# Altium schematic symbol library Power and Battery Management.SchLib: 645 symbols (part 5 of 15)
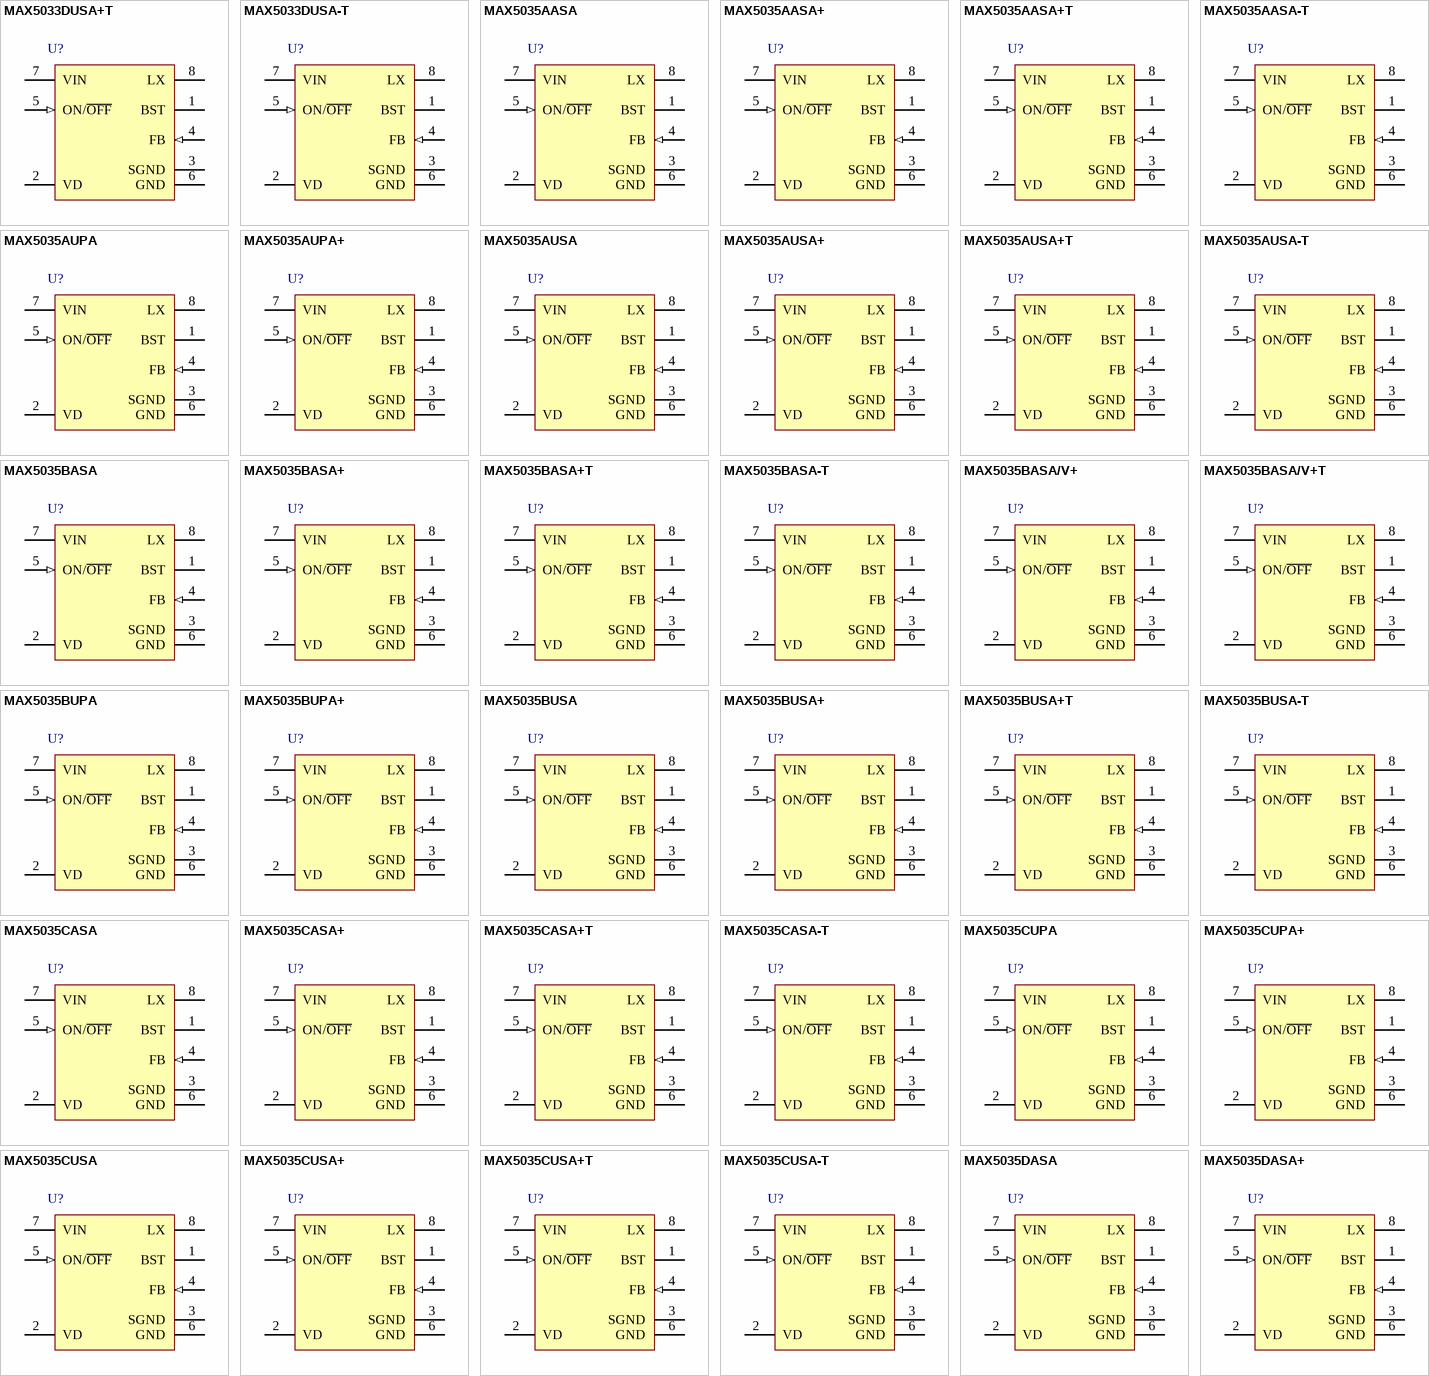
[diagram p23: symbols MAX5033DUSA+T to MAX5035DASA+]

## MAX5035AUSA+
designator U?
1A, 76V, High-Efficiency MAXPower Step-Down DC-DC Converter, 3.3V output, 8-Pin SOIC, 0°C to +85°C, Pb-Free; DatasheetVersion: Rev 5, May-2011; PackageVersion: revC, 2010; PackageReference: S8+5; PackageDescription: 8-Pin Small-Outline IC, Narrow (0.15in), 1.27 mm Pitch, SOIC (N), Pb-Free; Code_JEDEC: MS-012-AA; Code_IPC: SOIC127P600-8; ComponentLink1Description: Manufacturer URL; ComponentLink1URL: http://www.maxim-ic.com; ComponentLink2Description: Datasheet; ComponentLink2URL: http://datasheets.maxim-ic.com/en/ds/MAX5035.pdf; ComponentLink3Description: Package Specification; ComponentLink3URL: http://pdfserv.maxim-ic.com/package_dwgs/21-0041.PDF
footprint S8+5_N (SOIC, 8-Leads, Body 4.9x3.9mm, Pitch 1.27mm, IPC Medium Density)
footprint S8+5_L (SOIC, 8-Leads, Body 4.9x3.9mm, Pitch 1.27mm, IPC High Density)
footprint S8+5_M (SOIC, 8-Leads, Body 4.9x3.9mm, Pitch 1.27mm, IPC Low Density)
pins: 1 BST, 2 VD (power), 3 SGND (power), 4 FB (in), 5 ON/~{OFF} (in), 6 GND (power), 7 VIN (power), 8 LX

## MAX5035AUSA+T
designator U?
1A, 76V, High-Efficiency MAXPower Step-Down DC-DC Converter, 3.3V output, 8-Pin SOIC, 0°C to +85°C, Pb-Free, Tape and Reel; DatasheetVersion: Rev 5, May-2011; PackageVersion: revC, 2010; PackageReference: S8+5; PackageDescription: 8-Pin Small-Outline IC, Narrow (0.15in), 1.27 mm Pitch, SOIC (N), Pb-Free; Code_JEDEC: MS-012-AA; Code_IPC: SOIC127P600-8; ComponentLink1Description: Manufacturer URL; ComponentLink1URL: http://www.maxim-ic.com; ComponentLink2Description: Datasheet; ComponentLink2URL: http://datasheets.maxim-ic.com/en/ds/MAX5035.pdf; ComponentLink3Description: Package Specification; ComponentLink3URL: http://pdfserv.maxim-ic.com/package_dwgs/21-0041.PDF
footprint S8+5_N (SOIC, 8-Leads, Body 4.9x3.9mm, Pitch 1.27mm, IPC Medium Density)
footprint S8+5_L (SOIC, 8-Leads, Body 4.9x3.9mm, Pitch 1.27mm, IPC High Density)
footprint S8+5_M (SOIC, 8-Leads, Body 4.9x3.9mm, Pitch 1.27mm, IPC Low Density)
pins: 1 BST, 2 VD (power), 3 SGND (power), 4 FB (in), 5 ON/~{OFF} (in), 6 GND (power), 7 VIN (power), 8 LX

## MAX5035AUSA-T
designator U?
1A, 76V, High-Efficiency MAXPower Step-Down DC-DC Converter, 3.3V output, 8-Pin SOIC, 0°C to +85°C, Tape and Reel; DatasheetVersion: Rev 5, May-2011; PackageVersion: revC, 2010; PackageReference: S8-5; PackageDescription: 8-Pin Small-Outline IC, Narrow (0.15in), 1.27 mm Pitch, SOIC (N); Code_JEDEC: MS-012-AA; Code_IPC: SOIC127P600-8; ComponentLink1Description: Manufacturer URL; ComponentLink1URL: http://www.maxim-ic.com; ComponentLink2Description: Datasheet; ComponentLink2URL: http://datasheets.maxim-ic.com/en/ds/MAX5035.pdf; ComponentLink3Description: Package Specification; ComponentLink3URL: http://pdfserv.maxim-ic.com/package_dwgs/21-0041.PDF
footprint S8-5_N (SOIC, 8-Leads, Body 4.9x3.9mm, Pitch 1.27mm, IPC Medium Density)
footprint S8-5_L (SOIC, 8-Leads, Body 4.9x3.9mm, Pitch 1.27mm, IPC High Density)
footprint S8-5_M (SOIC, 8-Leads, Body 4.9x3.9mm, Pitch 1.27mm, IPC Low Density)
pins: 1 BST, 2 VD (power), 3 SGND (power), 4 FB (in), 5 ON/~{OFF} (in), 6 GND (power), 7 VIN (power), 8 LX

## MAX5035BASA
designator U?
1A, 76V, High-Efficiency MAXPower Step-Down DC-DC Converter, 5V output, 8-Pin SOIC, -40°C to +125°C; DatasheetVersion: Rev 5, May-2011; PackageVersion: revC, 2010; PackageReference: S8-5; PackageDescription: 8-Pin Small-Outline IC, Narrow (0.15in), 1.27 mm Pitch, SOIC (N); Code_JEDEC: MS-012-AA; Code_IPC: SOIC127P600-8; ComponentLink1Description: Manufacturer URL; ComponentLink1URL: http://www.maxim-ic.com; ComponentLink2Description: Datasheet; ComponentLink2URL: http://datasheets.maxim-ic.com/en/ds/MAX5035.pdf; ComponentLink3Description: Package Specification; ComponentLink3URL: http://pdfserv.maxim-ic.com/package_dwgs/21-0041.PDF
footprint S8-5_N (SOIC, 8-Leads, Body 4.9x3.9mm, Pitch 1.27mm, IPC Medium Density)
footprint S8-5_L (SOIC, 8-Leads, Body 4.9x3.9mm, Pitch 1.27mm, IPC High Density)
footprint S8-5_M (SOIC, 8-Leads, Body 4.9x3.9mm, Pitch 1.27mm, IPC Low Density)
pins: 1 BST, 2 VD (power), 3 SGND (power), 4 FB (in), 5 ON/~{OFF} (in), 6 GND (power), 7 VIN (power), 8 LX

## MAX5035BASA+
designator U?
1A, 76V, High-Efficiency MAXPower Step-Down DC-DC Converter, 5V output, 8-Pin SOIC, -40°C to +125°C, Pb-Free; DatasheetVersion: Rev 5, May-2011; PackageVersion: revC, 2010; PackageReference: S8+5; PackageDescription: 8-Pin Small-Outline IC, Narrow (0.15in), 1.27 mm Pitch, SOIC (N), Pb-Free; Code_JEDEC: MS-012-AA; Code_IPC: SOIC127P600-8; ComponentLink1Description: Manufacturer URL; ComponentLink1URL: http://www.maxim-ic.com; ComponentLink2Description: Datasheet; ComponentLink2URL: http://datasheets.maxim-ic.com/en/ds/MAX5035.pdf; ComponentLink3Description: Package Specification; ComponentLink3URL: http://pdfserv.maxim-ic.com/package_dwgs/21-0041.PDF
footprint S8+5_N (SOIC, 8-Leads, Body 4.9x3.9mm, Pitch 1.27mm, IPC Medium Density)
footprint S8+5_L (SOIC, 8-Leads, Body 4.9x3.9mm, Pitch 1.27mm, IPC High Density)
footprint S8+5_M (SOIC, 8-Leads, Body 4.9x3.9mm, Pitch 1.27mm, IPC Low Density)
pins: 1 BST, 2 VD (power), 3 SGND (power), 4 FB (in), 5 ON/~{OFF} (in), 6 GND (power), 7 VIN (power), 8 LX

## MAX5035BASA+T
designator U?
1A, 76V, High-Efficiency MAXPower Step-Down DC-DC Converter, 5V output, 8-Pin SOIC, -40°C to +125°C, Pb-Free, Tape and Reel; DatasheetVersion: Rev 5, May-2011; PackageVersion: revC, 2010; PackageReference: S8+5; PackageDescription: 8-Pin Small-Outline IC, Narrow (0.15in), 1.27 mm Pitch, SOIC (N), Pb-Free; Code_JEDEC: MS-012-AA; Code_IPC: SOIC127P600-8; ComponentLink1Description: Manufacturer URL; ComponentLink1URL: http://www.maxim-ic.com; ComponentLink2Description: Datasheet; ComponentLink2URL: http://datasheets.maxim-ic.com/en/ds/MAX5035.pdf; ComponentLink3Description: Package Specification; ComponentLink3URL: http://pdfserv.maxim-ic.com/package_dwgs/21-0041.PDF
footprint S8+5_N (SOIC, 8-Leads, Body 4.9x3.9mm, Pitch 1.27mm, IPC Medium Density)
footprint S8+5_L (SOIC, 8-Leads, Body 4.9x3.9mm, Pitch 1.27mm, IPC High Density)
footprint S8+5_M (SOIC, 8-Leads, Body 4.9x3.9mm, Pitch 1.27mm, IPC Low Density)
pins: 1 BST, 2 VD (power), 3 SGND (power), 4 FB (in), 5 ON/~{OFF} (in), 6 GND (power), 7 VIN (power), 8 LX

## MAX5035BASA-T
designator U?
1A, 76V, High-Efficiency MAXPower Step-Down DC-DC Converter, 5V output, 8-Pin SOIC, -40°C to +125°C, Tape and Reel; DatasheetVersion: Rev 5, May-2011; PackageVersion: revC, 2010; PackageReference: S8-5; PackageDescription: 8-Pin Small-Outline IC, Narrow (0.15in), 1.27 mm Pitch, SOIC (N); Code_JEDEC: MS-012-AA; Code_IPC: SOIC127P600-8; ComponentLink1Description: Manufacturer URL; ComponentLink1URL: http://www.maxim-ic.com; ComponentLink2Description: Datasheet; ComponentLink2URL: http://datasheets.maxim-ic.com/en/ds/MAX5035.pdf; ComponentLink3Description: Package Specification; ComponentLink3URL: http://pdfserv.maxim-ic.com/package_dwgs/21-0041.PDF
footprint S8-5_N (SOIC, 8-Leads, Body 4.9x3.9mm, Pitch 1.27mm, IPC Medium Density)
footprint S8-5_L (SOIC, 8-Leads, Body 4.9x3.9mm, Pitch 1.27mm, IPC High Density)
footprint S8-5_M (SOIC, 8-Leads, Body 4.9x3.9mm, Pitch 1.27mm, IPC Low Density)
pins: 1 BST, 2 VD (power), 3 SGND (power), 4 FB (in), 5 ON/~{OFF} (in), 6 GND (power), 7 VIN (power), 8 LX

## MAX5035BASA/V+
designator U?
1A, 76V, High-Efficiency MAXPower Step-Down DC-DC Converter, 5V output, 8-Pin SOIC, -40°C to +125°C, Pb-Free; DatasheetVersion: Rev 5, May-2011; PackageVersion: revC, 2010; PackageReference: S8+5; PackageDescription: 8-Pin Small-Outline IC, Narrow (0.15in), 1.27 mm Pitch, SOIC (N), Pb-Free; Code_JEDEC: MS-012-AA; Code_IPC: SOIC127P600-8; ComponentLink1Description: Manufacturer URL; ComponentLink1URL: http://www.maxim-ic.com; ComponentLink2Description: Datasheet; ComponentLink2URL: http://datasheets.maxim-ic.com/en/ds/MAX5035.pdf; ComponentLink3Description: Package Specification; ComponentLink3URL: http://pdfserv.maxim-ic.com/package_dwgs/21-0041.PDF
footprint S8+5_N (SOIC, 8-Leads, Body 4.9x3.9mm, Pitch 1.27mm, IPC Medium Density)
footprint S8+5_L (SOIC, 8-Leads, Body 4.9x3.9mm, Pitch 1.27mm, IPC High Density)
footprint S8+5_M (SOIC, 8-Leads, Body 4.9x3.9mm, Pitch 1.27mm, IPC Low Density)
pins: 1 BST, 2 VD (power), 3 SGND (power), 4 FB (in), 5 ON/~{OFF} (in), 6 GND (power), 7 VIN (power), 8 LX

## MAX5035BASA/V+T
designator U?
1A, 76V, High-Efficiency MAXPower Step-Down DC-DC Converter, 5V output, 8-Pin SOIC, -40°C to +125°C, Pb-Free, Tape and Reel; DatasheetVersion: Rev 5, May-2011; PackageVersion: revC, 2010; PackageReference: S8+5; PackageDescription: 8-Pin Small-Outline IC, Narrow (0.15in), 1.27 mm Pitch, SOIC (N), Pb-Free; Code_JEDEC: MS-012-AA; Code_IPC: SOIC127P600-8; ComponentLink1Description: Manufacturer URL; ComponentLink1URL: http://www.maxim-ic.com; ComponentLink2Description: Datasheet; ComponentLink2URL: http://datasheets.maxim-ic.com/en/ds/MAX5035.pdf; ComponentLink3Description: Package Specification; ComponentLink3URL: http://pdfserv.maxim-ic.com/package_dwgs/21-0041.PDF
footprint S8+5_N (SOIC, 8-Leads, Body 4.9x3.9mm, Pitch 1.27mm, IPC Medium Density)
footprint S8+5_L (SOIC, 8-Leads, Body 4.9x3.9mm, Pitch 1.27mm, IPC High Density)
footprint S8+5_M (SOIC, 8-Leads, Body 4.9x3.9mm, Pitch 1.27mm, IPC Low Density)
pins: 1 BST, 2 VD (power), 3 SGND (power), 4 FB (in), 5 ON/~{OFF} (in), 6 GND (power), 7 VIN (power), 8 LX

## MAX5035BUPA
designator U?
1A, 76V, High-Efficiency MAXPower Step-Down DC-DC Converter, 5V output, 8-Pin PDIP, 0°C to +85°C; DatasheetVersion: Rev 5, May-2011; PackageVersion: revE, 2011; PackageReference: P8-3; PackageDescription: 8-Pin Plastic Dual-In-Line, Narrow (0.3in), Pitch 2.54 mm, PDIP(N); Code_JEDEC: MS-001-AB; ComponentLink1Description: Manufacturer URL; ComponentLink1URL: http://www.maxim-ic.com; ComponentLink2Description: Datasheet; ComponentLink2URL: http://datasheets.maxim-ic.com/en/ds/MAX5035.pdf; ComponentLink3Description: Package Specification; ComponentLink3URL: http://pdfserv.maxim-ic.com/package_dwgs/21-0043.PDF
footprint P8-3 (DIP, 8-Leads, Row Spacing 7.62mm, Pitch 2.54mm, Body 9.4x7mm)
pins: 1 BST, 2 VD (power), 3 SGND (power), 4 FB (in), 5 ON/~{OFF} (in), 6 GND (power), 7 VIN (power), 8 LX

## MAX5035BUPA+
designator U?
1A, 76V, High-Efficiency MAXPower Step-Down DC-DC Converter, 5V output, 8-Pin PDIP, 0°C to +85°C, Pb-Free; DatasheetVersion: Rev 5, May-2011; PackageVersion: revE, 2011; PackageReference: P8+3; PackageDescription: 8-Pin Plastic Dual-In-Line, Narrow (0.3in), Pitch 2.54 mm, PDIP(N), Pb-Free; Code_JEDEC: MS-001-AB; ComponentLink1Description: Manufacturer URL; ComponentLink1URL: http://www.maxim-ic.com; ComponentLink2Description: Datasheet; ComponentLink2URL: http://datasheets.maxim-ic.com/en/ds/MAX5035.pdf; ComponentLink3Description: Package Specification; ComponentLink3URL: http://pdfserv.maxim-ic.com/package_dwgs/21-0043.PDF
footprint P8+3 (DIP, 8-Leads, Row Spacing 7.62mm, Pitch 2.54mm, Body 9.4x7mm)
pins: 1 BST, 2 VD (power), 3 SGND (power), 4 FB (in), 5 ON/~{OFF} (in), 6 GND (power), 7 VIN (power), 8 LX

## MAX5035BUSA
designator U?
1A, 76V, High-Efficiency MAXPower Step-Down DC-DC Converter, 5V output, 8-Pin SOIC, 0°C to +85°C; DatasheetVersion: Rev 5, May-2011; PackageVersion: revC, 2010; PackageReference: S8-5; PackageDescription: 8-Pin Small-Outline IC, Narrow (0.15in), 1.27 mm Pitch, SOIC (N); Code_JEDEC: MS-012-AA; Code_IPC: SOIC127P600-8; ComponentLink1Description: Manufacturer URL; ComponentLink1URL: http://www.maxim-ic.com; ComponentLink2Description: Datasheet; ComponentLink2URL: http://datasheets.maxim-ic.com/en/ds/MAX5035.pdf; ComponentLink3Description: Package Specification; ComponentLink3URL: http://pdfserv.maxim-ic.com/package_dwgs/21-0041.PDF
footprint S8-5_N (SOIC, 8-Leads, Body 4.9x3.9mm, Pitch 1.27mm, IPC Medium Density)
footprint S8-5_L (SOIC, 8-Leads, Body 4.9x3.9mm, Pitch 1.27mm, IPC High Density)
footprint S8-5_M (SOIC, 8-Leads, Body 4.9x3.9mm, Pitch 1.27mm, IPC Low Density)
pins: 1 BST, 2 VD (power), 3 SGND (power), 4 FB (in), 5 ON/~{OFF} (in), 6 GND (power), 7 VIN (power), 8 LX

## MAX5035BUSA+
designator U?
1A, 76V, High-Efficiency MAXPower Step-Down DC-DC Converter, 5V output, 8-Pin SOIC, 0°C to +85°C, Pb-Free; DatasheetVersion: Rev 5, May-2011; PackageVersion: revC, 2010; PackageReference: S8+5; PackageDescription: 8-Pin Small-Outline IC, Narrow (0.15in), 1.27 mm Pitch, SOIC (N), Pb-Free; Code_JEDEC: MS-012-AA; Code_IPC: SOIC127P600-8; ComponentLink1Description: Manufacturer URL; ComponentLink1URL: http://www.maxim-ic.com; ComponentLink2Description: Datasheet; ComponentLink2URL: http://datasheets.maxim-ic.com/en/ds/MAX5035.pdf; ComponentLink3Description: Package Specification; ComponentLink3URL: http://pdfserv.maxim-ic.com/package_dwgs/21-0041.PDF
footprint S8+5_N (SOIC, 8-Leads, Body 4.9x3.9mm, Pitch 1.27mm, IPC Medium Density)
footprint S8+5_L (SOIC, 8-Leads, Body 4.9x3.9mm, Pitch 1.27mm, IPC High Density)
footprint S8+5_M (SOIC, 8-Leads, Body 4.9x3.9mm, Pitch 1.27mm, IPC Low Density)
pins: 1 BST, 2 VD (power), 3 SGND (power), 4 FB (in), 5 ON/~{OFF} (in), 6 GND (power), 7 VIN (power), 8 LX

## MAX5035BUSA+T
designator U?
1A, 76V, High-Efficiency MAXPower Step-Down DC-DC Converter, 5V output, 8-Pin SOIC, 0°C to +85°C, Pb-Free, Tape and Reel; DatasheetVersion: Rev 5, May-2011; PackageVersion: revC, 2010; PackageReference: S8+5; PackageDescription: 8-Pin Small-Outline IC, Narrow (0.15in), 1.27 mm Pitch, SOIC (N), Pb-Free; Code_JEDEC: MS-012-AA; Code_IPC: SOIC127P600-8; ComponentLink1Description: Manufacturer URL; ComponentLink1URL: http://www.maxim-ic.com; ComponentLink2Description: Datasheet; ComponentLink2URL: http://datasheets.maxim-ic.com/en/ds/MAX5035.pdf; ComponentLink3Description: Package Specification; ComponentLink3URL: http://pdfserv.maxim-ic.com/package_dwgs/21-0041.PDF
footprint S8+5_N (SOIC, 8-Leads, Body 4.9x3.9mm, Pitch 1.27mm, IPC Medium Density)
footprint S8+5_L (SOIC, 8-Leads, Body 4.9x3.9mm, Pitch 1.27mm, IPC High Density)
footprint S8+5_M (SOIC, 8-Leads, Body 4.9x3.9mm, Pitch 1.27mm, IPC Low Density)
pins: 1 BST, 2 VD (power), 3 SGND (power), 4 FB (in), 5 ON/~{OFF} (in), 6 GND (power), 7 VIN (power), 8 LX

## MAX5035BUSA-T
designator U?
1A, 76V, High-Efficiency MAXPower Step-Down DC-DC Converter, 5V output, 8-Pin SOIC, 0°C to +85°C, Tape and Reel; DatasheetVersion: Rev 5, May-2011; PackageVersion: revC, 2010; PackageReference: S8-5; PackageDescription: 8-Pin Small-Outline IC, Narrow (0.15in), 1.27 mm Pitch, SOIC (N); Code_JEDEC: MS-012-AA; Code_IPC: SOIC127P600-8; ComponentLink1Description: Manufacturer URL; ComponentLink1URL: http://www.maxim-ic.com; ComponentLink2Description: Datasheet; ComponentLink2URL: http://datasheets.maxim-ic.com/en/ds/MAX5035.pdf; ComponentLink3Description: Package Specification; ComponentLink3URL: http://pdfserv.maxim-ic.com/package_dwgs/21-0041.PDF
footprint S8-5_N (SOIC, 8-Leads, Body 4.9x3.9mm, Pitch 1.27mm, IPC Medium Density)
footprint S8-5_L (SOIC, 8-Leads, Body 4.9x3.9mm, Pitch 1.27mm, IPC High Density)
footprint S8-5_M (SOIC, 8-Leads, Body 4.9x3.9mm, Pitch 1.27mm, IPC Low Density)
pins: 1 BST, 2 VD (power), 3 SGND (power), 4 FB (in), 5 ON/~{OFF} (in), 6 GND (power), 7 VIN (power), 8 LX

## MAX5035CASA
designator U?
1A, 76V, High-Efficiency MAXPower Step-Down DC-DC Converter, 12V output, 8-Pin SOIC, -40°C to +125°C; DatasheetVersion: Rev 5, May-2011; PackageVersion: revC, 2010; PackageReference: S8-5; PackageDescription: 8-Pin Small-Outline IC, Narrow (0.15in), 1.27 mm Pitch, SOIC (N); Code_JEDEC: MS-012-AA; Code_IPC: SOIC127P600-8; ComponentLink1Description: Manufacturer URL; ComponentLink1URL: http://www.maxim-ic.com; ComponentLink2Description: Datasheet; ComponentLink2URL: http://datasheets.maxim-ic.com/en/ds/MAX5035.pdf; ComponentLink3Description: Package Specification; ComponentLink3URL: http://pdfserv.maxim-ic.com/package_dwgs/21-0041.PDF
footprint S8-5_N (SOIC, 8-Leads, Body 4.9x3.9mm, Pitch 1.27mm, IPC Medium Density)
footprint S8-5_L (SOIC, 8-Leads, Body 4.9x3.9mm, Pitch 1.27mm, IPC High Density)
footprint S8-5_M (SOIC, 8-Leads, Body 4.9x3.9mm, Pitch 1.27mm, IPC Low Density)
pins: 1 BST, 2 VD (power), 3 SGND (power), 4 FB (in), 5 ON/~{OFF} (in), 6 GND (power), 7 VIN (power), 8 LX

## MAX5035CASA+
designator U?
1A, 76V, High-Efficiency MAXPower Step-Down DC-DC Converter, 12V output, 8-Pin SOIC, -40°C to +125°C, Pb-Free; DatasheetVersion: Rev 5, May-2011; PackageVersion: revC, 2010; PackageReference: S8+5; PackageDescription: 8-Pin Small-Outline IC, Narrow (0.15in), 1.27 mm Pitch, SOIC (N), Pb-Free; Code_JEDEC: MS-012-AA; Code_IPC: SOIC127P600-8; ComponentLink1Description: Manufacturer URL; ComponentLink1URL: http://www.maxim-ic.com; ComponentLink2Description: Datasheet; ComponentLink2URL: http://datasheets.maxim-ic.com/en/ds/MAX5035.pdf; ComponentLink3Description: Package Specification; ComponentLink3URL: http://pdfserv.maxim-ic.com/package_dwgs/21-0041.PDF
footprint S8+5_N (SOIC, 8-Leads, Body 4.9x3.9mm, Pitch 1.27mm, IPC Medium Density)
footprint S8+5_L (SOIC, 8-Leads, Body 4.9x3.9mm, Pitch 1.27mm, IPC High Density)
footprint S8+5_M (SOIC, 8-Leads, Body 4.9x3.9mm, Pitch 1.27mm, IPC Low Density)
pins: 1 BST, 2 VD (power), 3 SGND (power), 4 FB (in), 5 ON/~{OFF} (in), 6 GND (power), 7 VIN (power), 8 LX

## MAX5035CASA+T
designator U?
1A, 76V, High-Efficiency MAXPower Step-Down DC-DC Converter, 12V output, 8-Pin SOIC, -40°C to +125°C, Pb-Free, Tape and Reel; DatasheetVersion: Rev 5, May-2011; PackageVersion: revC, 2010; PackageReference: S8+5; PackageDescription: 8-Pin Small-Outline IC, Narrow (0.15in), 1.27 mm Pitch, SOIC (N), Pb-Free; Code_JEDEC: MS-012-AA; Code_IPC: SOIC127P600-8; ComponentLink1Description: Manufacturer URL; ComponentLink1URL: http://www.maxim-ic.com; ComponentLink2Description: Datasheet; ComponentLink2URL: http://datasheets.maxim-ic.com/en/ds/MAX5035.pdf; ComponentLink3Description: Package Specification; ComponentLink3URL: http://pdfserv.maxim-ic.com/package_dwgs/21-0041.PDF
footprint S8+5_N (SOIC, 8-Leads, Body 4.9x3.9mm, Pitch 1.27mm, IPC Medium Density)
footprint S8+5_L (SOIC, 8-Leads, Body 4.9x3.9mm, Pitch 1.27mm, IPC High Density)
footprint S8+5_M (SOIC, 8-Leads, Body 4.9x3.9mm, Pitch 1.27mm, IPC Low Density)
pins: 1 BST, 2 VD (power), 3 SGND (power), 4 FB (in), 5 ON/~{OFF} (in), 6 GND (power), 7 VIN (power), 8 LX

## MAX5035CASA-T
designator U?
1A, 76V, High-Efficiency MAXPower Step-Down DC-DC Converter, 12V output, 8-Pin SOIC, -40°C to +125°C, Tape and Reel; DatasheetVersion: Rev 5, May-2011; PackageVersion: revC, 2010; PackageReference: S8-5; PackageDescription: 8-Pin Small-Outline IC, Narrow (0.15in), 1.27 mm Pitch, SOIC (N); Code_JEDEC: MS-012-AA; Code_IPC: SOIC127P600-8; ComponentLink1Description: Manufacturer URL; ComponentLink1URL: http://www.maxim-ic.com; ComponentLink2Description: Datasheet; ComponentLink2URL: http://datasheets.maxim-ic.com/en/ds/MAX5035.pdf; ComponentLink3Description: Package Specification; ComponentLink3URL: http://pdfserv.maxim-ic.com/package_dwgs/21-0041.PDF
footprint S8-5_N (SOIC, 8-Leads, Body 4.9x3.9mm, Pitch 1.27mm, IPC Medium Density)
footprint S8-5_L (SOIC, 8-Leads, Body 4.9x3.9mm, Pitch 1.27mm, IPC High Density)
footprint S8-5_M (SOIC, 8-Leads, Body 4.9x3.9mm, Pitch 1.27mm, IPC Low Density)
pins: 1 BST, 2 VD (power), 3 SGND (power), 4 FB (in), 5 ON/~{OFF} (in), 6 GND (power), 7 VIN (power), 8 LX

## MAX5035CUPA
designator U?
1A, 76V, High-Efficiency MAXPower Step-Down DC-DC Converter, 12V output, 8-Pin PDIP, 0°C to +85°C; DatasheetVersion: Rev 5, May-2011; PackageVersion: revE, 2011; PackageReference: P8-3; PackageDescription: 8-Pin Plastic Dual-In-Line, Narrow (0.3in), Pitch 2.54 mm, PDIP(N); Code_JEDEC: MS-001-AB; ComponentLink1Description: Manufacturer URL; ComponentLink1URL: http://www.maxim-ic.com; ComponentLink2Description: Datasheet; ComponentLink2URL: http://datasheets.maxim-ic.com/en/ds/MAX5035.pdf; ComponentLink3Description: Package Specification; ComponentLink3URL: http://pdfserv.maxim-ic.com/package_dwgs/21-0043.PDF
footprint P8-3 (DIP, 8-Leads, Row Spacing 7.62mm, Pitch 2.54mm, Body 9.4x7mm)
pins: 1 BST, 2 VD (power), 3 SGND (power), 4 FB (in), 5 ON/~{OFF} (in), 6 GND (power), 7 VIN (power), 8 LX

## MAX5035CUPA+
designator U?
1A, 76V, High-Efficiency MAXPower Step-Down DC-DC Converter, 12V output, 8-Pin PDIP, 0°C to +85°C, Pb-Free; DatasheetVersion: Rev 5, May-2011; PackageVersion: revE, 2011; PackageReference: P8+3; PackageDescription: 8-Pin Plastic Dual-In-Line, Narrow (0.3in), Pitch 2.54 mm, PDIP(N), Pb-Free; Code_JEDEC: MS-001-AB; ComponentLink1Description: Manufacturer URL; ComponentLink1URL: http://www.maxim-ic.com; ComponentLink2Description: Datasheet; ComponentLink2URL: http://datasheets.maxim-ic.com/en/ds/MAX5035.pdf; ComponentLink3Description: Package Specification; ComponentLink3URL: http://pdfserv.maxim-ic.com/package_dwgs/21-0043.PDF
footprint P8+3 (DIP, 8-Leads, Row Spacing 7.62mm, Pitch 2.54mm, Body 9.4x7mm)
pins: 1 BST, 2 VD (power), 3 SGND (power), 4 FB (in), 5 ON/~{OFF} (in), 6 GND (power), 7 VIN (power), 8 LX

## MAX5035CUSA
designator U?
1A, 76V, High-Efficiency MAXPower Step-Down DC-DC Converter, 12V output, 8-Pin SOIC, 0°C to +85°C; DatasheetVersion: Rev 5, May-2011; PackageVersion: revC, 2010; PackageReference: S8-5; PackageDescription: 8-Pin Small-Outline IC, Narrow (0.15in), 1.27 mm Pitch, SOIC (N); Code_JEDEC: MS-012-AA; Code_IPC: SOIC127P600-8; ComponentLink1Description: Manufacturer URL; ComponentLink1URL: http://www.maxim-ic.com; ComponentLink2Description: Datasheet; ComponentLink2URL: http://datasheets.maxim-ic.com/en/ds/MAX5035.pdf; ComponentLink3Description: Package Specification; ComponentLink3URL: http://pdfserv.maxim-ic.com/package_dwgs/21-0041.PDF
footprint S8-5_N (SOIC, 8-Leads, Body 4.9x3.9mm, Pitch 1.27mm, IPC Medium Density)
footprint S8-5_L (SOIC, 8-Leads, Body 4.9x3.9mm, Pitch 1.27mm, IPC High Density)
footprint S8-5_M (SOIC, 8-Leads, Body 4.9x3.9mm, Pitch 1.27mm, IPC Low Density)
pins: 1 BST, 2 VD (power), 3 SGND (power), 4 FB (in), 5 ON/~{OFF} (in), 6 GND (power), 7 VIN (power), 8 LX

## MAX5035CUSA+
designator U?
1A, 76V, High-Efficiency MAXPower Step-Down DC-DC Converter, 12V output, 8-Pin SOIC, 0°C to +85°C, Pb-Free; DatasheetVersion: Rev 5, May-2011; PackageVersion: revC, 2010; PackageReference: S8+5; PackageDescription: 8-Pin Small-Outline IC, Narrow (0.15in), 1.27 mm Pitch, SOIC (N), Pb-Free; Code_JEDEC: MS-012-AA; Code_IPC: SOIC127P600-8; ComponentLink1Description: Manufacturer URL; ComponentLink1URL: http://www.maxim-ic.com; ComponentLink2Description: Datasheet; ComponentLink2URL: http://datasheets.maxim-ic.com/en/ds/MAX5035.pdf; ComponentLink3Description: Package Specification; ComponentLink3URL: http://pdfserv.maxim-ic.com/package_dwgs/21-0041.PDF
footprint S8+5_N (SOIC, 8-Leads, Body 4.9x3.9mm, Pitch 1.27mm, IPC Medium Density)
footprint S8+5_L (SOIC, 8-Leads, Body 4.9x3.9mm, Pitch 1.27mm, IPC High Density)
footprint S8+5_M (SOIC, 8-Leads, Body 4.9x3.9mm, Pitch 1.27mm, IPC Low Density)
pins: 1 BST, 2 VD (power), 3 SGND (power), 4 FB (in), 5 ON/~{OFF} (in), 6 GND (power), 7 VIN (power), 8 LX

## MAX5035CUSA+T
designator U?
1A, 76V, High-Efficiency MAXPower Step-Down DC-DC Converter, 12V output, 8-Pin SOIC, 0°C to +85°C, Pb-Free, Tape and Reel; DatasheetVersion: Rev 5, May-2011; PackageVersion: revC, 2010; PackageReference: S8+5; PackageDescription: 8-Pin Small-Outline IC, Narrow (0.15in), 1.27 mm Pitch, SOIC (N), Pb-Free; Code_JEDEC: MS-012-AA; Code_IPC: SOIC127P600-8; ComponentLink1Description: Manufacturer URL; ComponentLink1URL: http://www.maxim-ic.com; ComponentLink2Description: Datasheet; ComponentLink2URL: http://datasheets.maxim-ic.com/en/ds/MAX5035.pdf; ComponentLink3Description: Package Specification; ComponentLink3URL: http://pdfserv.maxim-ic.com/package_dwgs/21-0041.PDF
footprint S8+5_N (SOIC, 8-Leads, Body 4.9x3.9mm, Pitch 1.27mm, IPC Medium Density)
footprint S8+5_L (SOIC, 8-Leads, Body 4.9x3.9mm, Pitch 1.27mm, IPC High Density)
footprint S8+5_M (SOIC, 8-Leads, Body 4.9x3.9mm, Pitch 1.27mm, IPC Low Density)
pins: 1 BST, 2 VD (power), 3 SGND (power), 4 FB (in), 5 ON/~{OFF} (in), 6 GND (power), 7 VIN (power), 8 LX

## MAX5035CUSA-T
designator U?
1A, 76V, High-Efficiency MAXPower Step-Down DC-DC Converter, 12V output, 8-Pin SOIC, 0°C to +85°C, Tape and Reel; DatasheetVersion: Rev 5, May-2011; PackageVersion: revC, 2010; PackageReference: S8-5; PackageDescription: 8-Pin Small-Outline IC, Narrow (0.15in), 1.27 mm Pitch, SOIC (N); Code_JEDEC: MS-012-AA; Code_IPC: SOIC127P600-8; ComponentLink1Description: Manufacturer URL; ComponentLink1URL: http://www.maxim-ic.com; ComponentLink2Description: Datasheet; ComponentLink2URL: http://datasheets.maxim-ic.com/en/ds/MAX5035.pdf; ComponentLink3Description: Package Specification; ComponentLink3URL: http://pdfserv.maxim-ic.com/package_dwgs/21-0041.PDF
footprint S8-5_N (SOIC, 8-Leads, Body 4.9x3.9mm, Pitch 1.27mm, IPC Medium Density)
footprint S8-5_L (SOIC, 8-Leads, Body 4.9x3.9mm, Pitch 1.27mm, IPC High Density)
footprint S8-5_M (SOIC, 8-Leads, Body 4.9x3.9mm, Pitch 1.27mm, IPC Low Density)
pins: 1 BST, 2 VD (power), 3 SGND (power), 4 FB (in), 5 ON/~{OFF} (in), 6 GND (power), 7 VIN (power), 8 LX

## MAX5035DASA
designator U?
1A, 76V, High-Efficiency MAXPower Step-Down DC-DC Converter, 1.25 to 13.2V output, 8-Pin SOIC, -40°C to +125°C; DatasheetVersion: Rev 5, May-2011; PackageVersion: revC, 2010; PackageReference: S8-5; PackageDescription: 8-Pin Small-Outline IC, Narrow (0.15in), 1.27 mm Pitch, SOIC (N); Code_JEDEC: MS-012-AA; Code_IPC: SOIC127P600-8; ComponentLink1Description: Manufacturer URL; ComponentLink1URL: http://www.maxim-ic.com; ComponentLink2Description: Datasheet; ComponentLink2URL: http://datasheets.maxim-ic.com/en/ds/MAX5035.pdf; ComponentLink3Description: Package Specification; ComponentLink3URL: http://pdfserv.maxim-ic.com/package_dwgs/21-0041.PDF
footprint S8-5_N (SOIC, 8-Leads, Body 4.9x3.9mm, Pitch 1.27mm, IPC Medium Density)
footprint S8-5_L (SOIC, 8-Leads, Body 4.9x3.9mm, Pitch 1.27mm, IPC High Density)
footprint S8-5_M (SOIC, 8-Leads, Body 4.9x3.9mm, Pitch 1.27mm, IPC Low Density)
pins: 1 BST, 2 VD (power), 3 SGND (power), 4 FB (in), 5 ON/~{OFF} (in), 6 GND (power), 7 VIN (power), 8 LX

## MAX5035DASA+
designator U?
1A, 76V, High-Efficiency MAXPower Step-Down DC-DC Converter, 1.25 to 13.2V output, 8-Pin SOIC, -40°C to +125°C, Pb-Free; DatasheetVersion: Rev 5, May-2011; PackageVersion: revC, 2010; PackageReference: S8+5; PackageDescription: 8-Pin Small-Outline IC, Narrow (0.15in), 1.27 mm Pitch, SOIC (N), Pb-Free; Code_JEDEC: MS-012-AA; Code_IPC: SOIC127P600-8; ComponentLink1Description: Manufacturer URL; ComponentLink1URL: http://www.maxim-ic.com; ComponentLink2Description: Datasheet; ComponentLink2URL: http://datasheets.maxim-ic.com/en/ds/MAX5035.pdf; ComponentLink3Description: Package Specification; ComponentLink3URL: http://pdfserv.maxim-ic.com/package_dwgs/21-0041.PDF
footprint S8+5_N (SOIC, 8-Leads, Body 4.9x3.9mm, Pitch 1.27mm, IPC Medium Density)
footprint S8+5_L (SOIC, 8-Leads, Body 4.9x3.9mm, Pitch 1.27mm, IPC High Density)
footprint S8+5_M (SOIC, 8-Leads, Body 4.9x3.9mm, Pitch 1.27mm, IPC Low Density)
pins: 1 BST, 2 VD (power), 3 SGND (power), 4 FB (in), 5 ON/~{OFF} (in), 6 GND (power), 7 VIN (power), 8 LX

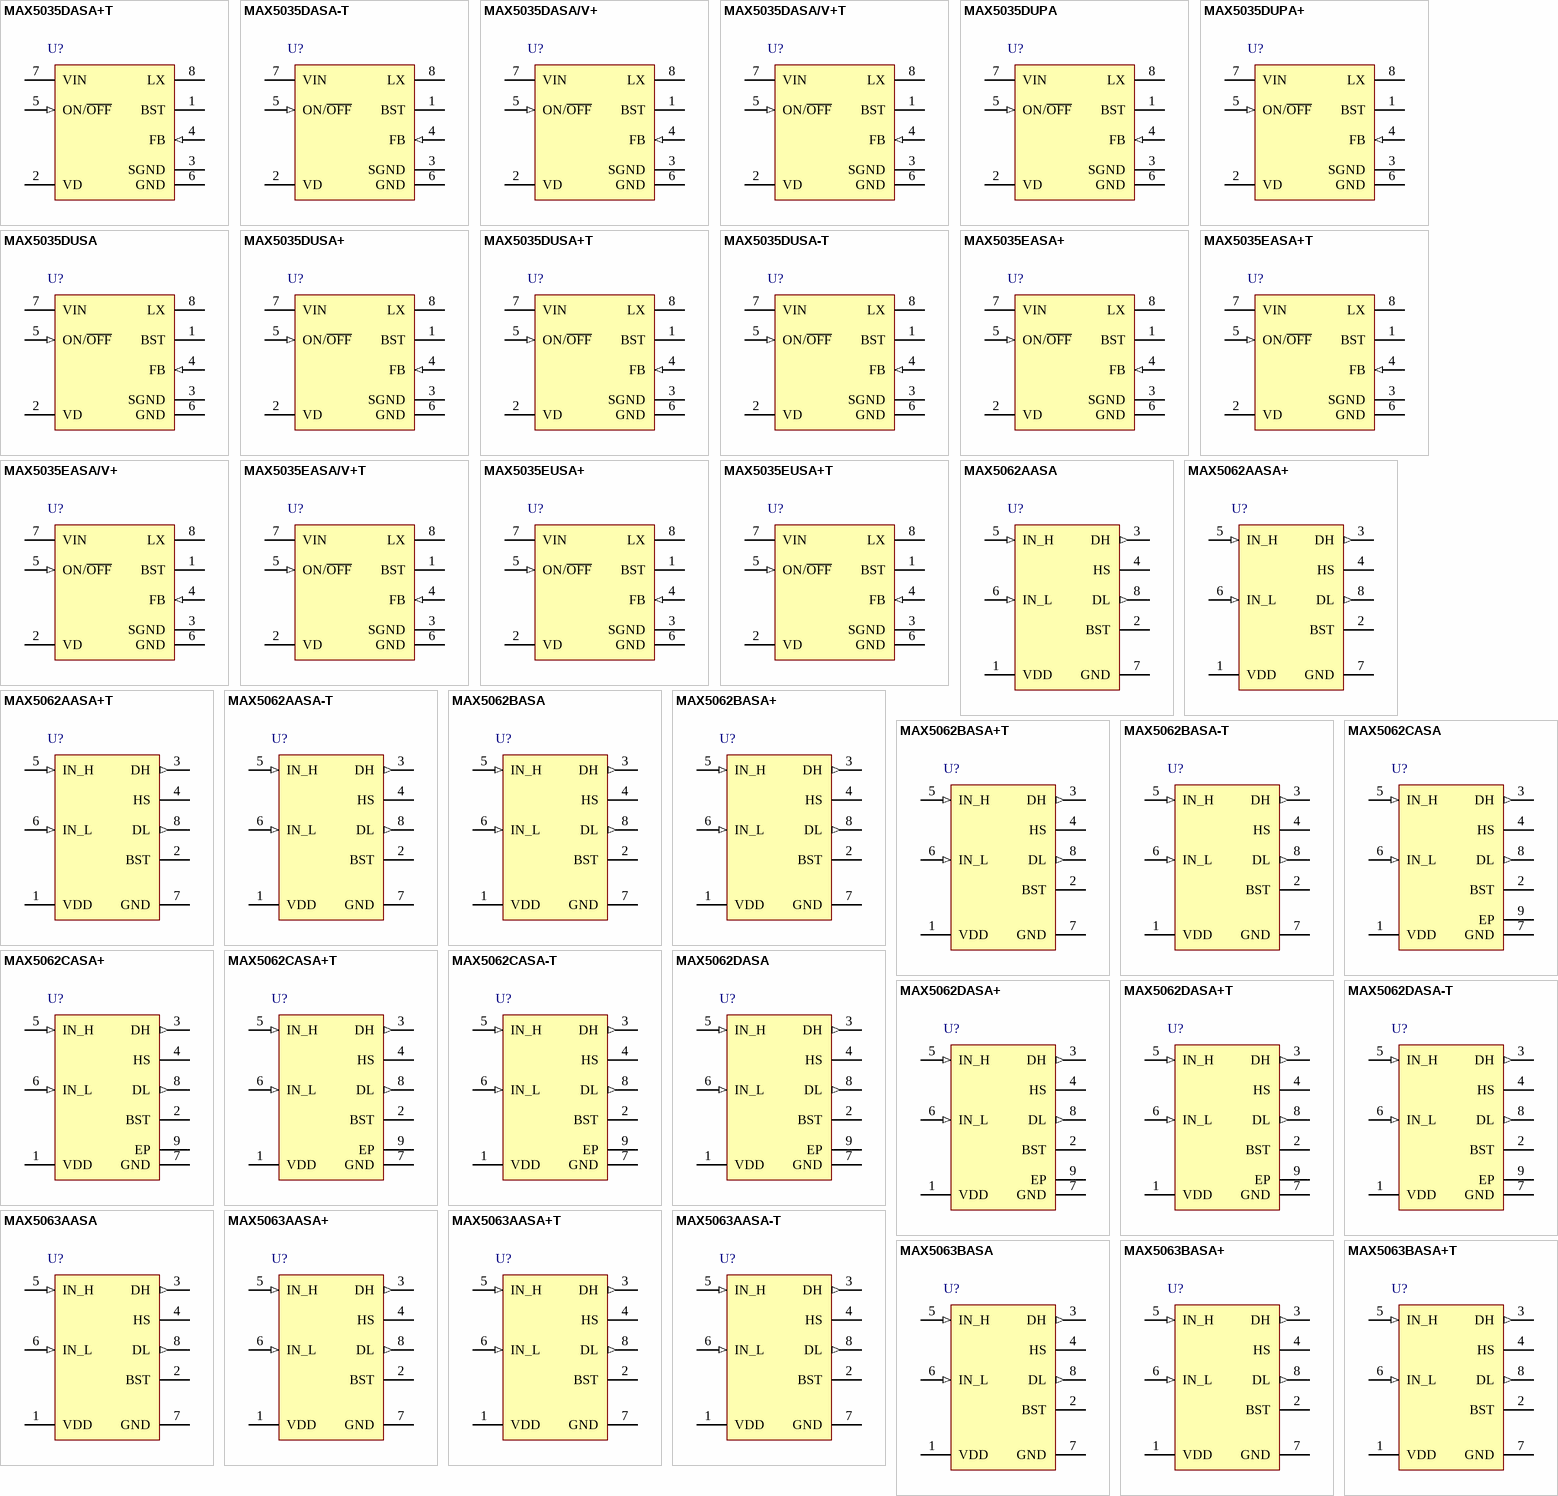
[diagram p6: symbols MAX5035DASA+T to MAX5063BASA+T]

## MAX5035DASA+T
designator U?
1A, 76V, High-Efficiency MAXPower Step-Down DC-DC Converter, 1.25 to 13.2V output, 8-Pin SOIC, -40°C to +125°C, Pb-Free, Tape and Reel; DatasheetVersion: Rev 5, May-2011; PackageVersion: revC, 2010; PackageReference: S8+5; PackageDescription: 8-Pin Small-Outline IC, Narrow (0.15in), 1.27 mm Pitch, SOIC (N), Pb-Free; Code_JEDEC: MS-012-AA; Code_IPC: SOIC127P600-8; ComponentLink1Description: Manufacturer URL; ComponentLink1URL: http://www.maxim-ic.com; ComponentLink2Description: Datasheet; ComponentLink2URL: http://datasheets.maxim-ic.com/en/ds/MAX5035.pdf; ComponentLink3Description: Package Specification; ComponentLink3URL: http://pdfserv.maxim-ic.com/package_dwgs/21-0041.PDF
footprint S8+5_N (SOIC, 8-Leads, Body 4.9x3.9mm, Pitch 1.27mm, IPC Medium Density)
footprint S8+5_L (SOIC, 8-Leads, Body 4.9x3.9mm, Pitch 1.27mm, IPC High Density)
footprint S8+5_M (SOIC, 8-Leads, Body 4.9x3.9mm, Pitch 1.27mm, IPC Low Density)
pins: 1 BST, 2 VD (power), 3 SGND (power), 4 FB (in), 5 ON/~{OFF} (in), 6 GND (power), 7 VIN (power), 8 LX

## MAX5035DASA-T
designator U?
1A, 76V, High-Efficiency MAXPower Step-Down DC-DC Converter, 1.25 to 13.2V output, 8-Pin SOIC, -40°C to +125°C, Tape and Reel; DatasheetVersion: Rev 5, May-2011; PackageVersion: revC, 2010; PackageReference: S8-5; PackageDescription: 8-Pin Small-Outline IC, Narrow (0.15in), 1.27 mm Pitch, SOIC (N); Code_JEDEC: MS-012-AA; Code_IPC: SOIC127P600-8; ComponentLink1Description: Manufacturer URL; ComponentLink1URL: http://www.maxim-ic.com; ComponentLink2Description: Datasheet; ComponentLink2URL: http://datasheets.maxim-ic.com/en/ds/MAX5035.pdf; ComponentLink3Description: Package Specification; ComponentLink3URL: http://pdfserv.maxim-ic.com/package_dwgs/21-0041.PDF
footprint S8-5_N (SOIC, 8-Leads, Body 4.9x3.9mm, Pitch 1.27mm, IPC Medium Density)
footprint S8-5_L (SOIC, 8-Leads, Body 4.9x3.9mm, Pitch 1.27mm, IPC High Density)
footprint S8-5_M (SOIC, 8-Leads, Body 4.9x3.9mm, Pitch 1.27mm, IPC Low Density)
pins: 1 BST, 2 VD (power), 3 SGND (power), 4 FB (in), 5 ON/~{OFF} (in), 6 GND (power), 7 VIN (power), 8 LX

## MAX5035DASA/V+
designator U?
1A, 76V, High-Efficiency MAXPower Step-Down DC-DC Converter, 1.25 to 13.2V output, 8-Pin SOIC, -40°C to +125°C, Pb-Free; DatasheetVersion: Rev 5, May-2011; PackageVersion: revC, 2010; PackageReference: S8+5; PackageDescription: 8-Pin Small-Outline IC, Narrow (0.15in), 1.27 mm Pitch, SOIC (N), Pb-Free; Code_JEDEC: MS-012-AA; Code_IPC: SOIC127P600-8; ComponentLink1Description: Manufacturer URL; ComponentLink1URL: http://www.maxim-ic.com; ComponentLink2Description: Datasheet; ComponentLink2URL: http://datasheets.maxim-ic.com/en/ds/MAX5035.pdf; ComponentLink3Description: Package Specification; ComponentLink3URL: http://pdfserv.maxim-ic.com/package_dwgs/21-0041.PDF
footprint S8+5_N (SOIC, 8-Leads, Body 4.9x3.9mm, Pitch 1.27mm, IPC Medium Density)
footprint S8+5_L (SOIC, 8-Leads, Body 4.9x3.9mm, Pitch 1.27mm, IPC High Density)
footprint S8+5_M (SOIC, 8-Leads, Body 4.9x3.9mm, Pitch 1.27mm, IPC Low Density)
pins: 1 BST, 2 VD (power), 3 SGND (power), 4 FB (in), 5 ON/~{OFF} (in), 6 GND (power), 7 VIN (power), 8 LX

## MAX5035DASA/V+T
designator U?
1A, 76V, High-Efficiency MAXPower Step-Down DC-DC Converter, 1.25 to 13.2V output, 8-Pin SOIC, -40°C to +125°C, Pb-Free, Tape and Reel; DatasheetVersion: Rev 5, May-2011; PackageVersion: revC, 2010; PackageReference: S8+5; PackageDescription: 8-Pin Small-Outline IC, Narrow (0.15in), 1.27 mm Pitch, SOIC (N), Pb-Free; Code_JEDEC: MS-012-AA; Code_IPC: SOIC127P600-8; ComponentLink1Description: Manufacturer URL; ComponentLink1URL: http://www.maxim-ic.com; ComponentLink2Description: Datasheet; ComponentLink2URL: http://datasheets.maxim-ic.com/en/ds/MAX5035.pdf; ComponentLink3Description: Package Specification; ComponentLink3URL: http://pdfserv.maxim-ic.com/package_dwgs/21-0041.PDF
footprint S8+5_N (SOIC, 8-Leads, Body 4.9x3.9mm, Pitch 1.27mm, IPC Medium Density)
footprint S8+5_L (SOIC, 8-Leads, Body 4.9x3.9mm, Pitch 1.27mm, IPC High Density)
footprint S8+5_M (SOIC, 8-Leads, Body 4.9x3.9mm, Pitch 1.27mm, IPC Low Density)
pins: 1 BST, 2 VD (power), 3 SGND (power), 4 FB (in), 5 ON/~{OFF} (in), 6 GND (power), 7 VIN (power), 8 LX

## MAX5035DUPA
designator U?
1A, 76V, High-Efficiency MAXPower Step-Down DC-DC Converter, 1.25 to 13.2V output, 8-Pin PDIP, 0°C to +85°C; DatasheetVersion: Rev 5, May-2011; PackageVersion: revE, 2011; PackageReference: P8-3; PackageDescription: 8-Pin Plastic Dual-In-Line, Narrow (0.3in), Pitch 2.54 mm, PDIP(N); Code_JEDEC: MS-001-AB; ComponentLink1Description: Manufacturer URL; ComponentLink1URL: http://www.maxim-ic.com; ComponentLink2Description: Datasheet; ComponentLink2URL: http://datasheets.maxim-ic.com/en/ds/MAX5035.pdf; ComponentLink3Description: Package Specification; ComponentLink3URL: http://pdfserv.maxim-ic.com/package_dwgs/21-0043.PDF
footprint P8-3 (DIP, 8-Leads, Row Spacing 7.62mm, Pitch 2.54mm, Body 9.4x7mm)
pins: 1 BST, 2 VD (power), 3 SGND (power), 4 FB (in), 5 ON/~{OFF} (in), 6 GND (power), 7 VIN (power), 8 LX

## MAX5035DUPA+
designator U?
1A, 76V, High-Efficiency MAXPower Step-Down DC-DC Converter, 1.25 to 13.2V output, 8-Pin PDIP, 0°C to +85°C, Pb-Free; DatasheetVersion: Rev 5, May-2011; PackageVersion: revE, 2011; PackageReference: P8+3; PackageDescription: 8-Pin Plastic Dual-In-Line, Narrow (0.3in), Pitch 2.54 mm, PDIP(N), Pb-Free; Code_JEDEC: MS-001-AB; ComponentLink1Description: Manufacturer URL; ComponentLink1URL: http://www.maxim-ic.com; ComponentLink2Description: Datasheet; ComponentLink2URL: http://datasheets.maxim-ic.com/en/ds/MAX5035.pdf; ComponentLink3Description: Package Specification; ComponentLink3URL: http://pdfserv.maxim-ic.com/package_dwgs/21-0043.PDF
footprint P8+3 (DIP, 8-Leads, Row Spacing 7.62mm, Pitch 2.54mm, Body 9.4x7mm)
pins: 1 BST, 2 VD (power), 3 SGND (power), 4 FB (in), 5 ON/~{OFF} (in), 6 GND (power), 7 VIN (power), 8 LX

## MAX5035DUSA
designator U?
1A, 76V, High-Efficiency MAXPower Step-Down DC-DC Converter, 1.25 to 13.2V output, 8-Pin SOIC, 0°C to +85°C; DatasheetVersion: Rev 5, May-2011; PackageVersion: revC, 2010; PackageReference: S8-5; PackageDescription: 8-Pin Small-Outline IC, Narrow (0.15in), 1.27 mm Pitch, SOIC (N); Code_JEDEC: MS-012-AA; Code_IPC: SOIC127P600-8; ComponentLink1Description: Manufacturer URL; ComponentLink1URL: http://www.maxim-ic.com; ComponentLink2Description: Datasheet; ComponentLink2URL: http://datasheets.maxim-ic.com/en/ds/MAX5035.pdf; ComponentLink3Description: Package Specification; ComponentLink3URL: http://pdfserv.maxim-ic.com/package_dwgs/21-0041.PDF
footprint S8-5_N (SOIC, 8-Leads, Body 4.9x3.9mm, Pitch 1.27mm, IPC Medium Density)
footprint S8-5_L (SOIC, 8-Leads, Body 4.9x3.9mm, Pitch 1.27mm, IPC High Density)
footprint S8-5_M (SOIC, 8-Leads, Body 4.9x3.9mm, Pitch 1.27mm, IPC Low Density)
pins: 1 BST, 2 VD (power), 3 SGND (power), 4 FB (in), 5 ON/~{OFF} (in), 6 GND (power), 7 VIN (power), 8 LX

## MAX5035DUSA+
designator U?
1A, 76V, High-Efficiency MAXPower Step-Down DC-DC Converter, 1.25 to 13.2V output, 8-Pin SOIC, 0°C to +85°C, Pb-Free; DatasheetVersion: Rev 5, May-2011; PackageVersion: revC, 2010; PackageReference: S8+5; PackageDescription: 8-Pin Small-Outline IC, Narrow (0.15in), 1.27 mm Pitch, SOIC (N), Pb-Free; Code_JEDEC: MS-012-AA; Code_IPC: SOIC127P600-8; ComponentLink1Description: Manufacturer URL; ComponentLink1URL: http://www.maxim-ic.com; ComponentLink2Description: Datasheet; ComponentLink2URL: http://datasheets.maxim-ic.com/en/ds/MAX5035.pdf; ComponentLink3Description: Package Specification; ComponentLink3URL: http://pdfserv.maxim-ic.com/package_dwgs/21-0041.PDF
footprint S8+5_N (SOIC, 8-Leads, Body 4.9x3.9mm, Pitch 1.27mm, IPC Medium Density)
footprint S8+5_L (SOIC, 8-Leads, Body 4.9x3.9mm, Pitch 1.27mm, IPC High Density)
footprint S8+5_M (SOIC, 8-Leads, Body 4.9x3.9mm, Pitch 1.27mm, IPC Low Density)
pins: 1 BST, 2 VD (power), 3 SGND (power), 4 FB (in), 5 ON/~{OFF} (in), 6 GND (power), 7 VIN (power), 8 LX

## MAX5035DUSA+T
designator U?
1A, 76V, High-Efficiency MAXPower Step-Down DC-DC Converter, 1.25 to 13.2V output, 8-Pin SOIC, 0°C to +85°C, Pb-Free, Tape and Reel; DatasheetVersion: Rev 5, May-2011; PackageVersion: revC, 2010; PackageReference: S8+5; PackageDescription: 8-Pin Small-Outline IC, Narrow (0.15in), 1.27 mm Pitch, SOIC (N), Pb-Free; Code_JEDEC: MS-012-AA; Code_IPC: SOIC127P600-8; ComponentLink1Description: Manufacturer URL; ComponentLink1URL: http://www.maxim-ic.com; ComponentLink2Description: Datasheet; ComponentLink2URL: http://datasheets.maxim-ic.com/en/ds/MAX5035.pdf; ComponentLink3Description: Package Specification; ComponentLink3URL: http://pdfserv.maxim-ic.com/package_dwgs/21-0041.PDF
footprint S8+5_N (SOIC, 8-Leads, Body 4.9x3.9mm, Pitch 1.27mm, IPC Medium Density)
footprint S8+5_L (SOIC, 8-Leads, Body 4.9x3.9mm, Pitch 1.27mm, IPC High Density)
footprint S8+5_M (SOIC, 8-Leads, Body 4.9x3.9mm, Pitch 1.27mm, IPC Low Density)
pins: 1 BST, 2 VD (power), 3 SGND (power), 4 FB (in), 5 ON/~{OFF} (in), 6 GND (power), 7 VIN (power), 8 LX

## MAX5035DUSA-T
designator U?
1A, 76V, High-Efficiency MAXPower Step-Down DC-DC Converter, 1.25 to 13.2V output, 8-Pin SOIC, 0°C to +85°C, Tape and Reel; DatasheetVersion: Rev 5, May-2011; PackageVersion: revC, 2010; PackageReference: S8-5; PackageDescription: 8-Pin Small-Outline IC, Narrow (0.15in), 1.27 mm Pitch, SOIC (N); Code_JEDEC: MS-012-AA; Code_IPC: SOIC127P600-8; ComponentLink1Description: Manufacturer URL; ComponentLink1URL: http://www.maxim-ic.com; ComponentLink2Description: Datasheet; ComponentLink2URL: http://datasheets.maxim-ic.com/en/ds/MAX5035.pdf; ComponentLink3Description: Package Specification; ComponentLink3URL: http://pdfserv.maxim-ic.com/package_dwgs/21-0041.PDF
footprint S8-5_N (SOIC, 8-Leads, Body 4.9x3.9mm, Pitch 1.27mm, IPC Medium Density)
footprint S8-5_L (SOIC, 8-Leads, Body 4.9x3.9mm, Pitch 1.27mm, IPC High Density)
footprint S8-5_M (SOIC, 8-Leads, Body 4.9x3.9mm, Pitch 1.27mm, IPC Low Density)
pins: 1 BST, 2 VD (power), 3 SGND (power), 4 FB (in), 5 ON/~{OFF} (in), 6 GND (power), 7 VIN (power), 8 LX

## MAX5035EASA+
designator U?
1A, 76V, High-Efficiency MAXPower Step-Down DC-DC Converter, 1.25 to 13.2V output, 8-Pin SOIC, -40°C to +125°C, Pb-Free; DatasheetVersion: Rev 5, May-2011; PackageVersion: revC, 2010; PackageReference: S8+5; PackageDescription: 8-Pin Small-Outline IC, Narrow (0.15in), 1.27 mm Pitch, SOIC (N), Pb-Free; Code_JEDEC: MS-012-AA; Code_IPC: SOIC127P600-8; ComponentLink1Description: Manufacturer URL; ComponentLink1URL: http://www.maxim-ic.com; ComponentLink2Description: Datasheet; ComponentLink2URL: http://datasheets.maxim-ic.com/en/ds/MAX5035.pdf; ComponentLink3Description: Package Specification; ComponentLink3URL: http://pdfserv.maxim-ic.com/package_dwgs/21-0041.PDF
footprint S8+5_N (SOIC, 8-Leads, Body 4.9x3.9mm, Pitch 1.27mm, IPC Medium Density)
footprint S8+5_L (SOIC, 8-Leads, Body 4.9x3.9mm, Pitch 1.27mm, IPC High Density)
footprint S8+5_M (SOIC, 8-Leads, Body 4.9x3.9mm, Pitch 1.27mm, IPC Low Density)
pins: 1 BST, 2 VD (power), 3 SGND (power), 4 FB (in), 5 ON/~{OFF} (in), 6 GND (power), 7 VIN (power), 8 LX

## MAX5035EASA+T
designator U?
1A, 76V, High-Efficiency MAXPower Step-Down DC-DC Converter, 1.25 to 13.2V output, 8-Pin SOIC, -40°C to +125°C, Pb-Free, Tape and Reel; DatasheetVersion: Rev 5, May-2011; PackageVersion: revC, 2010; PackageReference: S8+5; PackageDescription: 8-Pin Small-Outline IC, Narrow (0.15in), 1.27 mm Pitch, SOIC (N), Pb-Free; Code_JEDEC: MS-012-AA; Code_IPC: SOIC127P600-8; ComponentLink1Description: Manufacturer URL; ComponentLink1URL: http://www.maxim-ic.com; ComponentLink2Description: Datasheet; ComponentLink2URL: http://datasheets.maxim-ic.com/en/ds/MAX5035.pdf; ComponentLink3Description: Package Specification; ComponentLink3URL: http://pdfserv.maxim-ic.com/package_dwgs/21-0041.PDF
footprint S8+5_N (SOIC, 8-Leads, Body 4.9x3.9mm, Pitch 1.27mm, IPC Medium Density)
footprint S8+5_L (SOIC, 8-Leads, Body 4.9x3.9mm, Pitch 1.27mm, IPC High Density)
footprint S8+5_M (SOIC, 8-Leads, Body 4.9x3.9mm, Pitch 1.27mm, IPC Low Density)
pins: 1 BST, 2 VD (power), 3 SGND (power), 4 FB (in), 5 ON/~{OFF} (in), 6 GND (power), 7 VIN (power), 8 LX

## MAX5035EASA/V+
designator U?
1A, 76V, High-Efficiency MAXPower Step-Down DC-DC Converter, 1.25 to 13.2V output, 8-Pin SOIC, -40°C to +125°C, Pb-Free; DatasheetVersion: Rev 5, May-2011; PackageVersion: revC, 2010; PackageReference: S8+5; PackageDescription: 8-Pin Small-Outline IC, Narrow (0.15in), 1.27 mm Pitch, SOIC (N), Pb-Free; Code_JEDEC: MS-012-AA; Code_IPC: SOIC127P600-8; ComponentLink1Description: Manufacturer URL; ComponentLink1URL: http://www.maxim-ic.com; ComponentLink2Description: Datasheet; ComponentLink2URL: http://datasheets.maxim-ic.com/en/ds/MAX5035.pdf; ComponentLink3Description: Package Specification; ComponentLink3URL: http://pdfserv.maxim-ic.com/package_dwgs/21-0041.PDF
footprint S8+5_N (SOIC, 8-Leads, Body 4.9x3.9mm, Pitch 1.27mm, IPC Medium Density)
footprint S8+5_L (SOIC, 8-Leads, Body 4.9x3.9mm, Pitch 1.27mm, IPC High Density)
footprint S8+5_M (SOIC, 8-Leads, Body 4.9x3.9mm, Pitch 1.27mm, IPC Low Density)
pins: 1 BST, 2 VD (power), 3 SGND (power), 4 FB (in), 5 ON/~{OFF} (in), 6 GND (power), 7 VIN (power), 8 LX

## MAX5035EASA/V+T
designator U?
1A, 76V, High-Efficiency MAXPower Step-Down DC-DC Converter, 1.25 to 13.2V output, 8-Pin SOIC, -40°C to +125°C, Pb-Free, Tape and Reel; DatasheetVersion: Rev 5, May-2011; PackageVersion: revC, 2010; PackageReference: S8+5; PackageDescription: 8-Pin Small-Outline IC, Narrow (0.15in), 1.27 mm Pitch, SOIC (N), Pb-Free; Code_JEDEC: MS-012-AA; Code_IPC: SOIC127P600-8; ComponentLink1Description: Manufacturer URL; ComponentLink1URL: http://www.maxim-ic.com; ComponentLink2Description: Datasheet; ComponentLink2URL: http://datasheets.maxim-ic.com/en/ds/MAX5035.pdf; ComponentLink3Description: Package Specification; ComponentLink3URL: http://pdfserv.maxim-ic.com/package_dwgs/21-0041.PDF
footprint S8+5_N (SOIC, 8-Leads, Body 4.9x3.9mm, Pitch 1.27mm, IPC Medium Density)
footprint S8+5_L (SOIC, 8-Leads, Body 4.9x3.9mm, Pitch 1.27mm, IPC High Density)
footprint S8+5_M (SOIC, 8-Leads, Body 4.9x3.9mm, Pitch 1.27mm, IPC Low Density)
pins: 1 BST, 2 VD (power), 3 SGND (power), 4 FB (in), 5 ON/~{OFF} (in), 6 GND (power), 7 VIN (power), 8 LX

## MAX5035EUSA+
designator U?
1A, 76V, High-Efficiency MAXPower Step-Down DC-DC Converter, 1.25 to 13.2V output, 8-Pin SOIC, 0°C to +85°C, Pb-Free; DatasheetVersion: Rev 5, May-2011; PackageVersion: revC, 2010; PackageReference: S8+5; PackageDescription: 8-Pin Small-Outline IC, Narrow (0.15in), 1.27 mm Pitch, SOIC (N), Pb-Free; Code_JEDEC: MS-012-AA; Code_IPC: SOIC127P600-8; ComponentLink1Description: Manufacturer URL; ComponentLink1URL: http://www.maxim-ic.com; ComponentLink2Description: Datasheet; ComponentLink2URL: http://datasheets.maxim-ic.com/en/ds/MAX5035.pdf; ComponentLink3Description: Package Specification; ComponentLink3URL: http://pdfserv.maxim-ic.com/package_dwgs/21-0041.PDF
footprint S8+5_N (SOIC, 8-Leads, Body 4.9x3.9mm, Pitch 1.27mm, IPC Medium Density)
footprint S8+5_L (SOIC, 8-Leads, Body 4.9x3.9mm, Pitch 1.27mm, IPC High Density)
footprint S8+5_M (SOIC, 8-Leads, Body 4.9x3.9mm, Pitch 1.27mm, IPC Low Density)
pins: 1 BST, 2 VD (power), 3 SGND (power), 4 FB (in), 5 ON/~{OFF} (in), 6 GND (power), 7 VIN (power), 8 LX

## MAX5035EUSA+T
designator U?
1A, 76V, High-Efficiency MAXPower Step-Down DC-DC Converter, 1.25 to 13.2V output, 8-Pin SOIC, 0°C to +85°C, Pb-Free, Tape and Reel; DatasheetVersion: Rev 5, May-2011; PackageVersion: revC, 2010; PackageReference: S8-5; PackageDescription: 8-Pin Small-Outline IC, Narrow (0.15in), 1.27 mm Pitch, SOIC (N); Code_JEDEC: MS-012-AA; Code_IPC: SOIC127P600-8; ComponentLink1Description: Manufacturer URL; ComponentLink1URL: http://www.maxim-ic.com; ComponentLink2Description: Datasheet; ComponentLink2URL: http://datasheets.maxim-ic.com/en/ds/MAX5035.pdf; ComponentLink3Description: Package Specification; ComponentLink3URL: http://pdfserv.maxim-ic.com/package_dwgs/21-0041.PDF
footprint S8-5_N (SOIC, 8-Leads, Body 4.9x3.9mm, Pitch 1.27mm, IPC Medium Density)
footprint S8-5_L (SOIC, 8-Leads, Body 4.9x3.9mm, Pitch 1.27mm, IPC High Density)
footprint S8-5_M (SOIC, 8-Leads, Body 4.9x3.9mm, Pitch 1.27mm, IPC Low Density)
pins: 1 BST, 2 VD (power), 3 SGND (power), 4 FB (in), 5 ON/~{OFF} (in), 6 GND (power), 7 VIN (power), 8 LX

## MAX5062AASA
designator U?
125V/2A, High-Speed, Half-Bridge MOSFET Driver, non-inverting high driver, non-inverting low driver, 8-Pin SOIC, -40°C to +125°C; DatasheetVersion: Rev 5, May-2007; PackageVersion: revC, 2010; PackageReference: S8-5; PackageDescription: 8-Pin Small-Outline IC, Narrow (0.15in), 1.27 mm Pitch, SOIC (N); Code_JEDEC: MS-012-AA; Code_IPC: SOIC127P600-8; ComponentLink1Description: Manufacturer URL; ComponentLink1URL: http://www.maxim-ic.com; ComponentLink2Description: Datasheet; ComponentLink2URL: http://datasheets.maxim-ic.com/en/ds/MAX5062-MAX5064B.pdf; ComponentLink3Description: Package Specification; ComponentLink3URL: http://pdfserv.maxim-ic.com/package_dwgs/21-0041.PDF
footprint S8-5_N (SOIC, 8-Leads, Body 4.9x3.9mm, Pitch 1.27mm, IPC Medium Density)
footprint S8-5_L (SOIC, 8-Leads, Body 4.9x3.9mm, Pitch 1.27mm, IPC High Density)
footprint S8-5_M (SOIC, 8-Leads, Body 4.9x3.9mm, Pitch 1.27mm, IPC Low Density)
pins: 1 VDD (power), 2 BST, 3 DH (out), 4 HS, 5 IN_H (in), 6 IN_L (in), 7 GND (power), 8 DL (out)

## MAX5062AASA+
designator U?
125V/2A, High-Speed, Half-Bridge MOSFET Driver, non-inverting high driver, non-inverting low driver, 8-Pin SOIC, -40°C to +125°C, Pb-Free; DatasheetVersion: Rev 5, May-2007; PackageVersion: revC, 2010; PackageReference: S8+5; PackageDescription: 8-Pin Small-Outline IC, Narrow (0.15in), 1.27 mm Pitch, SOIC (N), Pb-Free; Code_JEDEC: MS-012-AA; Code_IPC: SOIC127P600-8; ComponentLink1Description: Manufacturer URL; ComponentLink1URL: http://www.maxim-ic.com; ComponentLink2Description: Datasheet; ComponentLink2URL: http://datasheets.maxim-ic.com/en/ds/MAX5062-MAX5064B.pdf; ComponentLink3Description: Package Specification; ComponentLink3URL: http://pdfserv.maxim-ic.com/package_dwgs/21-0041.PDF
footprint S8+5_N (SOIC, 8-Leads, Body 4.9x3.9mm, Pitch 1.27mm, IPC Medium Density)
footprint S8+5_L (SOIC, 8-Leads, Body 4.9x3.9mm, Pitch 1.27mm, IPC High Density)
footprint S8+5_M (SOIC, 8-Leads, Body 4.9x3.9mm, Pitch 1.27mm, IPC Low Density)
pins: 1 VDD (power), 2 BST, 3 DH (out), 4 HS, 5 IN_H (in), 6 IN_L (in), 7 GND (power), 8 DL (out)

## MAX5062AASA+T
designator U?
125V/2A, High-Speed, Half-Bridge MOSFET Driver, non-inverting high driver, non-inverting low driver, 8-Pin SOIC, -40°C to +125°C, Pb-Free, Tape and Reel; DatasheetVersion: Rev 5, May-2007; PackageVersion: revC, 2010; PackageReference: S8+5; PackageDescription: 8-Pin Small-Outline IC, Narrow (0.15in), 1.27 mm Pitch, SOIC (N), Pb-Free; Code_JEDEC: MS-012-AA; Code_IPC: SOIC127P600-8; ComponentLink1Description: Manufacturer URL; ComponentLink1URL: http://www.maxim-ic.com; ComponentLink2Description: Datasheet; ComponentLink2URL: http://datasheets.maxim-ic.com/en/ds/MAX5062-MAX5064B.pdf; ComponentLink3Description: Package Specification; ComponentLink3URL: http://pdfserv.maxim-ic.com/package_dwgs/21-0041.PDF
footprint S8+5_N (SOIC, 8-Leads, Body 4.9x3.9mm, Pitch 1.27mm, IPC Medium Density)
footprint S8+5_L (SOIC, 8-Leads, Body 4.9x3.9mm, Pitch 1.27mm, IPC High Density)
footprint S8+5_M (SOIC, 8-Leads, Body 4.9x3.9mm, Pitch 1.27mm, IPC Low Density)
pins: 1 VDD (power), 2 BST, 3 DH (out), 4 HS, 5 IN_H (in), 6 IN_L (in), 7 GND (power), 8 DL (out)

## MAX5062AASA-T
designator U?
125V/2A, High-Speed, Half-Bridge MOSFET Driver, non-inverting high driver, non-inverting low driver, 8-Pin SOIC, -40°C to +125°C, Tape and Reel; DatasheetVersion: Rev 5, May-2007; PackageVersion: revC, 2010; PackageReference: S8-5; PackageDescription: 8-Pin Small-Outline IC, Narrow (0.15in), 1.27 mm Pitch, SOIC (N); Code_JEDEC: MS-012-AA; Code_IPC: SOIC127P600-8; ComponentLink1Description: Manufacturer URL; ComponentLink1URL: http://www.maxim-ic.com; ComponentLink2Description: Datasheet; ComponentLink2URL: http://datasheets.maxim-ic.com/en/ds/MAX5062-MAX5064B.pdf; ComponentLink3Description: Package Specification; ComponentLink3URL: http://pdfserv.maxim-ic.com/package_dwgs/21-0041.PDF
footprint S8-5_N (SOIC, 8-Leads, Body 4.9x3.9mm, Pitch 1.27mm, IPC Medium Density)
footprint S8-5_L (SOIC, 8-Leads, Body 4.9x3.9mm, Pitch 1.27mm, IPC High Density)
footprint S8-5_M (SOIC, 8-Leads, Body 4.9x3.9mm, Pitch 1.27mm, IPC Low Density)
pins: 1 VDD (power), 2 BST, 3 DH (out), 4 HS, 5 IN_H (in), 6 IN_L (in), 7 GND (power), 8 DL (out)

## MAX5062BASA
designator U?
125V/2A, High-Speed, Half-Bridge MOSFET Driver, non-inverting high driver, inverting low driver, 8-Pin SOIC, -40°C to +125°C; DatasheetVersion: Rev 5, May-2007; PackageVersion: revC, 2010; PackageReference: S8-5; PackageDescription: 8-Pin Small-Outline IC, Narrow (0.15in), 1.27 mm Pitch, SOIC (N); Code_JEDEC: MS-012-AA; Code_IPC: SOIC127P600-8; ComponentLink1Description: Manufacturer URL; ComponentLink1URL: http://www.maxim-ic.com; ComponentLink2Description: Datasheet; ComponentLink2URL: http://datasheets.maxim-ic.com/en/ds/MAX5062-MAX5064B.pdf; ComponentLink3Description: Package Specification; ComponentLink3URL: http://pdfserv.maxim-ic.com/package_dwgs/21-0041.PDF
footprint S8-5_N (SOIC, 8-Leads, Body 4.9x3.9mm, Pitch 1.27mm, IPC Medium Density)
footprint S8-5_L (SOIC, 8-Leads, Body 4.9x3.9mm, Pitch 1.27mm, IPC High Density)
footprint S8-5_M (SOIC, 8-Leads, Body 4.9x3.9mm, Pitch 1.27mm, IPC Low Density)
pins: 1 VDD (power), 2 BST, 3 DH (out), 4 HS, 5 IN_H (in), 6 IN_L (in), 7 GND (power), 8 DL (out)